# Altium schematic symbol library SiT9121AI-2B1-33E100.000000G.SchLib: 1 symbol
Pins are listed as number, name and electrical type; pins without a type are passive.

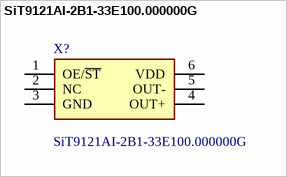
[diagram p0: symbol SiT9121AI-2B1-33E100.000000G]

## SiT9121AI-2B1-33E100.000000G
designator X?
Standard Clock Oscillators 100MHz 3.3V LVDS 20ppm; Manufacturer_Name: SiTime; Geometry.Height: 0.8mm; Mouser Part Number: 788-9121AI-2B13E100G; Mouser Price/Stock: https://www.mouser.co.uk/ProductDetail/SiTime/SiT9121AI-2B1-33E100.000000G?qs=H7WEQPD31y0dqSwuK04nsg%3D%3D; Manufacturer_Part_Number: SiT9121AI-2B1-33E100.000000G; Datasheet Link: https://componentsearchengine.com/Datasheets/1/SiT9121AI-2B1-33E100.000000G.pdf
footprint SiT9121AI2B133E100000000G
pins: 1 OE/~{ST}, 2 NC, 3 GND, 4 OUT+, 5 OUT-, 6 VDD